# EAGLE library part 667101110107 (library WR-RAST)
WR-RAST Male Header IDC Vertical 2.50/5.00 mm Characteristics Rated Current: 4 A Working Voltage: 32 V / 250 V UL approval: E323964 UL 94-V0 Operating temperature: -40°C up to +110°C Glow-Wire Compliancy Conform to IEC 60335-1 Tested at 750 °C and 850 °C Perform by third party laboratory Suitable for non-attended appliances and many other applications Applications White goods Unattended appliance <https://www.we-online.com/components/media/o870305v209%20Multi-WR-RAST2.5-667101110103.jpg> Details see: www.we-online.com/components/products/WR_RAST_IDC_MALE_HEADER_IDC_VERTICAL_2_50_5_00_MM <www.we-online.com/catalog/WR_RAST_IDC_MALE_HEADER_IDC_VERTICAL_2_50_5_00_MM/?utm_source=eagle_model&utm_medium=description_link&utm_campaign=eisos_eagle> Created by Ella Wu 2025-12-12 2025 (C) Würth Elektronik
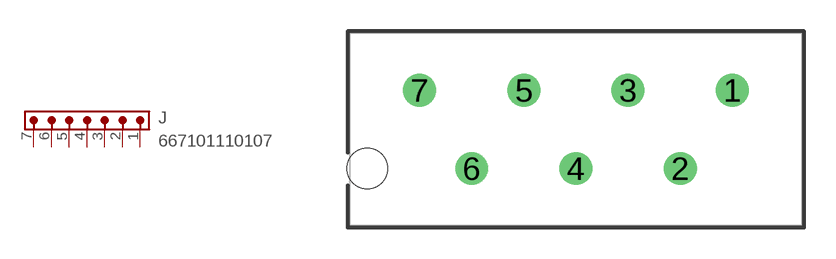
[diagram p18: symbol with the pads of 667101110107; footprint 667101110107]

Designator prefix J

## 667101110107 (CODING: OA; DATASHEET-URL: https://www.we-online.com/redexpert/spec/667101110107?ae; INSULATOR-MATERIAL: PA66; IR: 4A; PACKAGING: Tray; PART-NUMBER: 667101110107; PITCH: 2.5 mm; POLARITY: 07; VALUE: 667101110107)  [667101110107]
1  1  pas
2  2  pas
3  3  pas
4  4  pas
5  5  pas
6  6  pas
7  7  pas

## Footprint 667101110107 (pad centres in mm)
WR-RAST Male Header IDC Vertical 2.50/5.00 mm Pitch 2.5mm, 7pins
drill 1.05: 1 7.5,1.875; 2 5,-1.875; 3 2.5,1.875; 4 0,-1.875; 5 -2.5,1.875; 6 -5,-1.875; 7 -7.5,1.875
hole 1.95 at -10,-1.875